# Altium schematic symbol library Stabilizer.SchLib: 7 symbols
Pins are listed as number, name and electrical type; pins without a type are passive.

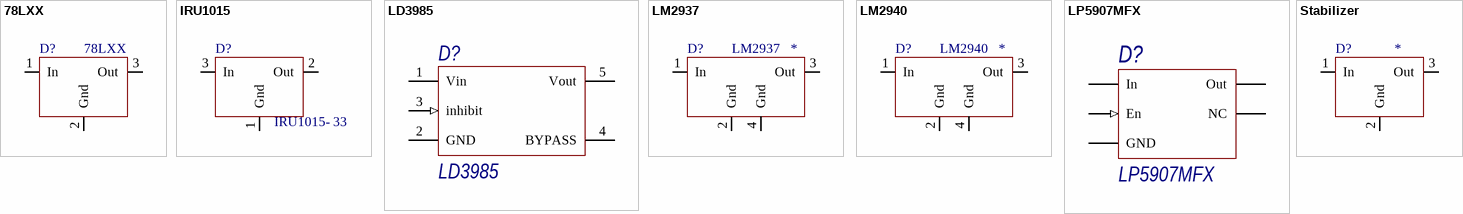
[diagram p0: symbols 78LXX to Stabilizer]

## 78LXX
designator D?
pins: 1 In (power), 2 Gnd (power), 3 Out (power)

## IRU1015
designator D?, comment IRU1015-  Model: 33
LDO stabilizer
footprint TO220 (The TO-220 package)
pins: 1 Gnd (power), 2 Out (power), 3 In (power)

## LD3985
designator D?
Ultra low drop and low noise voltage regulator 150mA; Body: SOT23-5; Name: LD3985
footprint SOT95P245X145-5N (SOT23, 5-Leads, Body 2,90x2,45mm, Pitch 0,95mm, IPC Medium Density)
pins: 1 Vin (power), 2 GND (power), 3 inhibit (in), 4 BYPASS, 5 Vout (power)

## LM2937
designator D?
500-mA Low Dropout Regulator; Name: *; Voltage: *
footprint SOT230P700X180-4N (SOT223, 4-Leads, Body 6,50x7,00mm (avg), Pitch 2,30mm, IPC Medium Density)
pins: 1 In (power), 2 Gnd (power), 3 Out (power), 4 Gnd (power)

## LM2940
designator D?
1A Low Dropout Regulator; Name: *; Volage: *
footprint SOT230P700X180-4N (SOT223, 4-Leads, Body 6,50x7,00mm (avg), Pitch 2,30mm, IPC Medium Density)
pins: 1 In (power), 2 Gnd (power), 3 Out (power), 4 Gnd (power)

## LP5907MFX
designator D?
Name: LP5907MFX; Body: *
footprint SOT95P245X145-5N (SOT23, 5-Leads, Body 2,90x2,45mm, Pitch 0,95mm, IPC Medium Density)
pins: 1 In (power), 2 GND (power), 3 En (in), 4 NC, 5 Out (power)

## Stabilizer
designator D?
Name: *
pins: 1 In (power), 2 Gnd (power), 3 Out (power)